# EAGLE library part AMPL_PAM8610 (library mainboard-v4aW-jlcpcb)
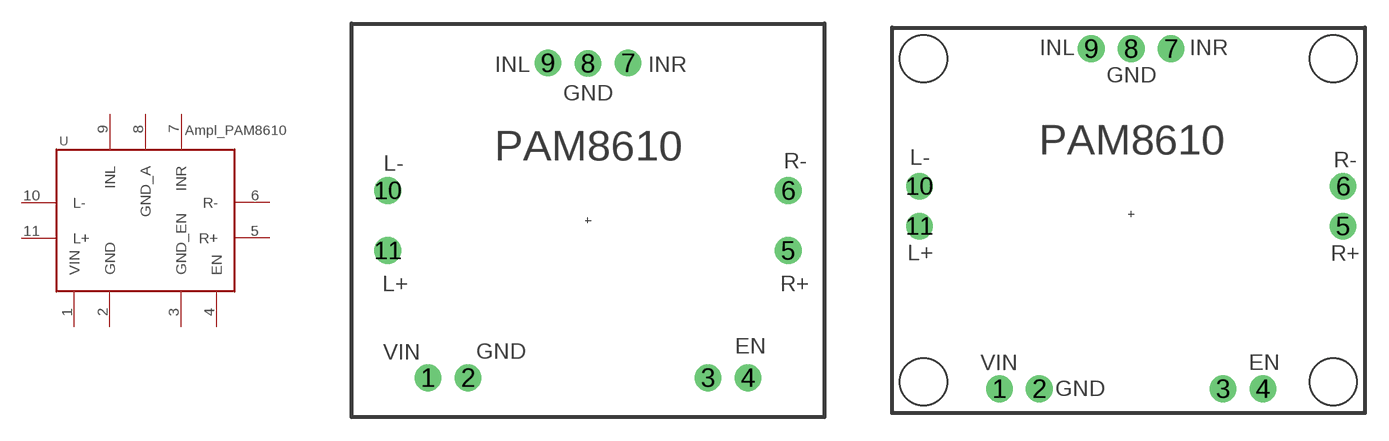
[diagram p0: symbol with the pads of AMPL_PAM8610; footprints AMPL_PAM8610, AMPL_PAM8610-NS]

Designator prefix -

## AMPL_PAM8610  [AMPL_PAM8610]
1  VIN  pwr
2  GND  pwr
3  GND_EN  in
4  EN  in
5  R+  out
6  R-  out
7  INR  in
8  GND_A  in
9  INL  in
10  L-  out
11  L+  out

## AMPL_PAM8610NS  [AMPL_PAM8610-NS]
Pads as for AMPL_PAM8610

## Footprint AMPL_PAM8610 (pad centres in mm)
drill 0.8 pad 1.7: 1 -10.16,-10; 2 -7.62,-10; 3 7.62,-10; 4 10.16,-10; 5 12.7,-1.92; 6 12.7,1.89; 7 2.54,10; 8 0,9.97; 9 -2.54,10; 10 -12.7,1.89; 11 -12.7,-1.92

## Footprint AMPL_PAM8610-NS (pad centres in mm)
drill 0.8 pad 1.7: 1 -8.4,-11.15; 2 -5.86,-11.15; 3 5.86,-11.15; 4 8.4,-11.15; 5 13.5,-0.77; 6 13.5,1.77; 7 2.54,10.55; 8 0,10.55; 9 -2.54,10.55; 10 -13.5,1.77; 11 -13.5,-0.77